# Altium schematic symbol library Schlib1.SchLib: 14 symbols
Pins are listed as number, name and electrical type; pins without a type are passive.

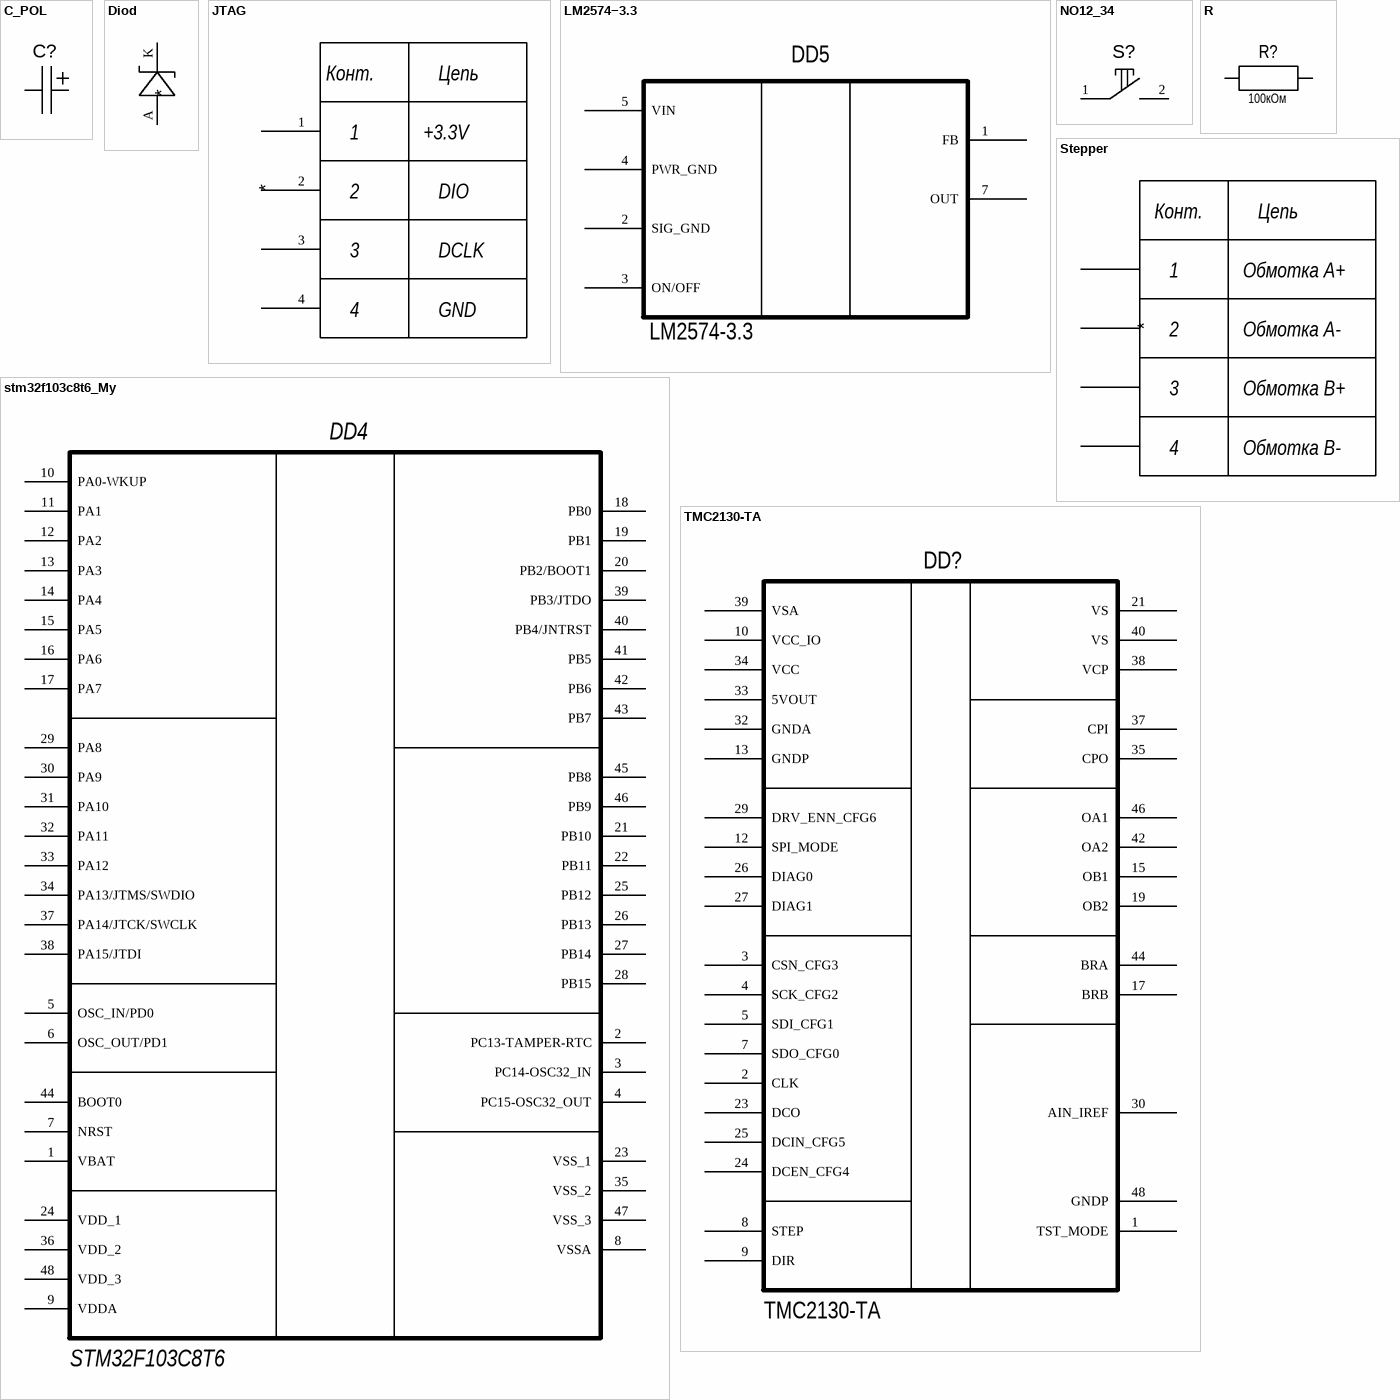
[diagram p0: symbols C_POL to TMC2130-TA]

## C_POL
designator C?
footprint CAPAE8883X105M (Aluminum Electrolytic Capacitor, Body 8,30x8,30x10,50mm, IPC Low Density)
footprint CAPM7343X42N (Molded Capacitor, 2-Leads, Body 7,30x4,30mm, IPC Medium Density)
pins: 1, 2

## Diod
designator *  (value not drawn)
footprint Диод
pins: A, K

## JTAG
designator *  (value not drawn)
footprint PLS-4
pins: 1, 2, 3, 4
text: Конт.; Цепь; +3.3V; DIO; DCLK; GND

## LM2574−3.3
designator DD5, comment LM2574-3.3
footprint TI SOIC127P1030X265-14N (SOIC, 14-Leads, Body 8,99x7,50mm, Pitch 1,27mm, IPC Medium Density)
pins: 1 FB, 2 SIG_GND, 3 ON/OFF, 4 PWR_GND, 5 VIN, 7 OUT

## NO12_34
designator S?
footprint SMD_SWITCH
footprint Кнопка
pins: 1, 2

## R
designator R?, comment 100кОм
footprint RESC1005X03N (Chip Resistor, 2-Leads, Body 1,00x0,50mm, IPC Medium Density)
footprint RESC3116X05N (Chip Resistor, 2-Leads, Body 3,10x1,60mm, IPC Medium Density)
pins: 1, 2

## Stepper
designator *  (value not drawn)
footprint JST XH B4B-XH-A
pins: 1, 2, 3, 4
text: Конт.; Цепь; Обмотка А+; Обмотка А-; Обмотка В+; Обмотка В-

## stm32f103c8t6_My
designator DD4, comment STM32F103C8T6
footprint LQFP48_N (Thin QFP, 48-Leads, Body 7x7mm, Pitch 0.5mm, IPC Medium Density)
pins: 1 VBAT, 2 PC13-TAMPER-RTC, 3 PC14-OSC32_IN, 4 PC15-OSC32_OUT, 5 OSC_IN/PD0, 6 OSC_OUT/PD1, 7 NRST, 8 VSSA, 9 VDDA, 10 PA0-WKUP, 11 PA1, 12 PA2, 13 PA3, 14 PA4, 15 PA5, 16 PA6, 17 PA7, 18 PB0, 19 PB1, 20 PB2/BOOT1, 21 PB10, 22 PB11, 23 VSS_1, 24 VDD_1, 25 PB12, 26 PB13, 27 PB14, 28 PB15, 29 PA8, 30 PA9, 31 PA10, 32 PA11, 33 PA12, 34 PA13/JTMS/SWDIO, 35 VSS_2, 36 VDD_2, 37 PA14/JTCK/SWCLK, 38 PA15/JTDI, 39 PB3/JTDO, 40 PB4/JNTRST, 41 PB5, 42 PB6, 43 PB7, 44 BOOT0, 45 PB8, 46 PB9, 47 VSS_3, 48 VDD_3

## TMC2130-TA
designator DD?
footprint TSQFP50P900X900X120_HS-49N (TSQFP, 48-Leads, Body 7,00x7,00mm, Pitch 0,50mm, Thermal Pad 5,00x5,00mm, IPC Medium Density)
pins: 1 TST_MODE, 2 CLK, 3 CSN_CFG3, 4 SCK_CFG2, 5 SDI_CFG1, 7 SDO_CFG0, 8 STEP, 9 DIR, 10 VCC_IO, 12 SPI_MODE, 13 GNDP, 15 OB1, 17 BRB, 19 OB2, 21 VS, 23 DCO, 24 DCEN_CFG4, 25 DCIN_CFG5, 26 DIAG0, 27 DIAG1, 29 DRV_ENN_CFG6, 30 AIN_IREF, 32 GNDA, 33 5VOUT, 34 VCC, 35 CPO, 37 CPI, 38 VCP, 39 VSA, 40 VS, 42 OA2, 44 BRA, 46 OA1, 48 GNDP

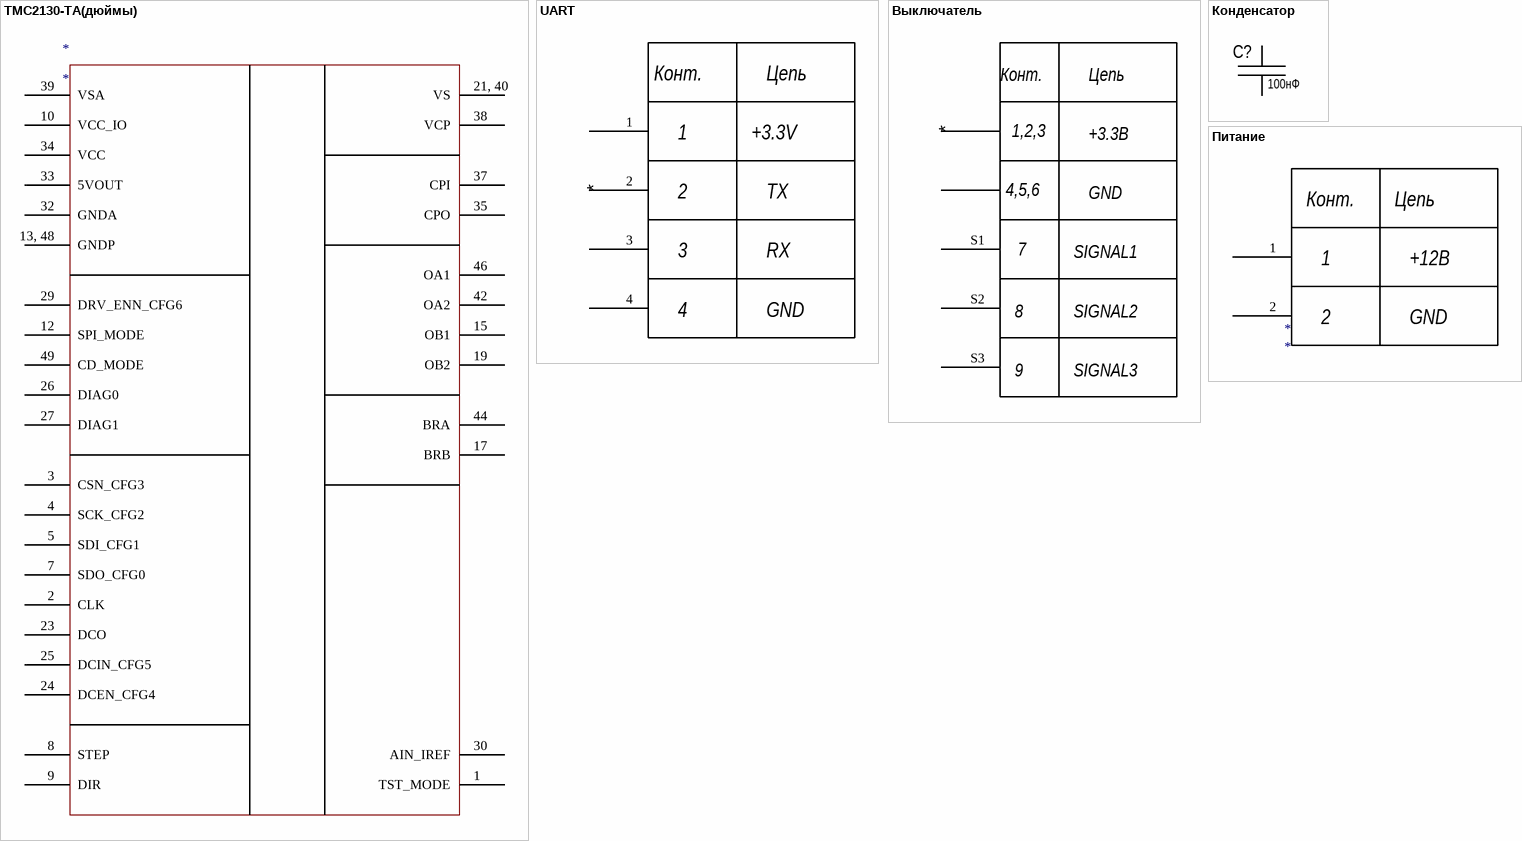
[diagram p1: symbols TMC2130-TA(дюймы) to Питание]

## TMC2130-TA(дюймы)
designator *
pins: 1 TST_MODE, 2 CLK, 3 CSN_CFG3, 4 SCK_CFG2, 5 SDI_CFG1, 7 SDO_CFG0, 8 STEP, 9 DIR, 10 VCC_IO, 12 SPI_MODE, 13, 48 GNDP, 15 OB1, 17 BRB, 19 OB2, 21, 40 VS, 23 DCO, 24 DCEN_CFG4, 25 DCIN_CFG5, 26 DIAG0, 27 DIAG1, 29 DRV_ENN_CFG6, 30 AIN_IREF, 32 GNDA, 33 5VOUT, 34 VCC, 35 CPO, 37 CPI, 38 VCP, 39 VSA, 42 OA2, 44 BRA, 46 OA1, 49 CD_MODE

## UART
designator *  (value not drawn)
footprint PLS-4
pins: 1, 2, 3, 4
text: Конт.; Цепь; +3.3V; TX; RX; GND

## Выключатель
designator *  (value not drawn)
footprint PLS-4 - выключатели
pins: 1, 2, S1, S2, S3
text: Конт.; Цепь; 1,2,3; +3.3В; 4,5,6; GND; 7; SIGNAL1; 8; SIGNAL2; 9; SIGNAL3

## Конденсатор
designator C?, comment 100нФ
footprint CAPC1005X03N (Chip Capacitor, 2-Leads, Body 1,00x0,50mm, IPC Medium Density)
footprint CAPAE8883X105M (Aluminum Electrolytic Capacitor, Body 8,30x8,30x10,50mm, IPC Low Density)
footprint CAPM7343X42N (Molded Capacitor, 2-Leads, Body 7,30x4,30mm, IPC Medium Density)
pins: 1, 2

## Питание
designator *
footprint CUI PJ-102AH (DC Barrel Jack W/ Switch 2.0x5.5)
pins: 1, 2
text: Конт.; Цепь; +12В; GND